# Altium schematic symbol library TPS7A4901DRBT.SchLib: 1 symbol
Pins are listed as number, name and electrical type; pins without a type are passive.

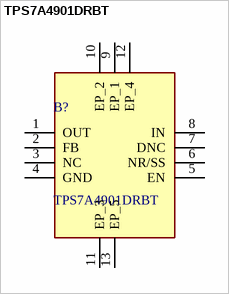
[diagram p0: symbol TPS7A4901DRBT]

## TPS7A4901DRBT
designator B?
LDO Voltage Regulators Vin 3V to 36V 150mA UltraLow Noise; Manufacturer_Name: Texas Instruments; Geometry.Height: 1mm; Mouser Part Number: 595-TPS7A4901DRBT; Mouser Price/Stock: https://www.mouser.co.uk/ProductDetail/Texas-Instruments/TPS7A4901DRBT?qs=pV2tVPdcZ6zWH9W1Sn7%252Btg%3D%3D; Manufacturer_Part_Number: TPS7A4901DRBT; Datasheet Link: https://www.arrow.com/en/products/tps7a4901drbt/texas-instruments?region=nac
footprint TPS7A4901DRBT
pins: 1 OUT, 2 FB, 3 NC, 4 GND, 5 EN, 6 NR/SS, 7 DNC, 8 IN, 9 EP_1, 10 EP_2, 11 EP_3, 12 EP_4, 13 EP_5